# Altium schematic symbol library Schlib.SchLib: 2 symbols
Pins are listed as number, name and electrical type; pins without a type are passive.

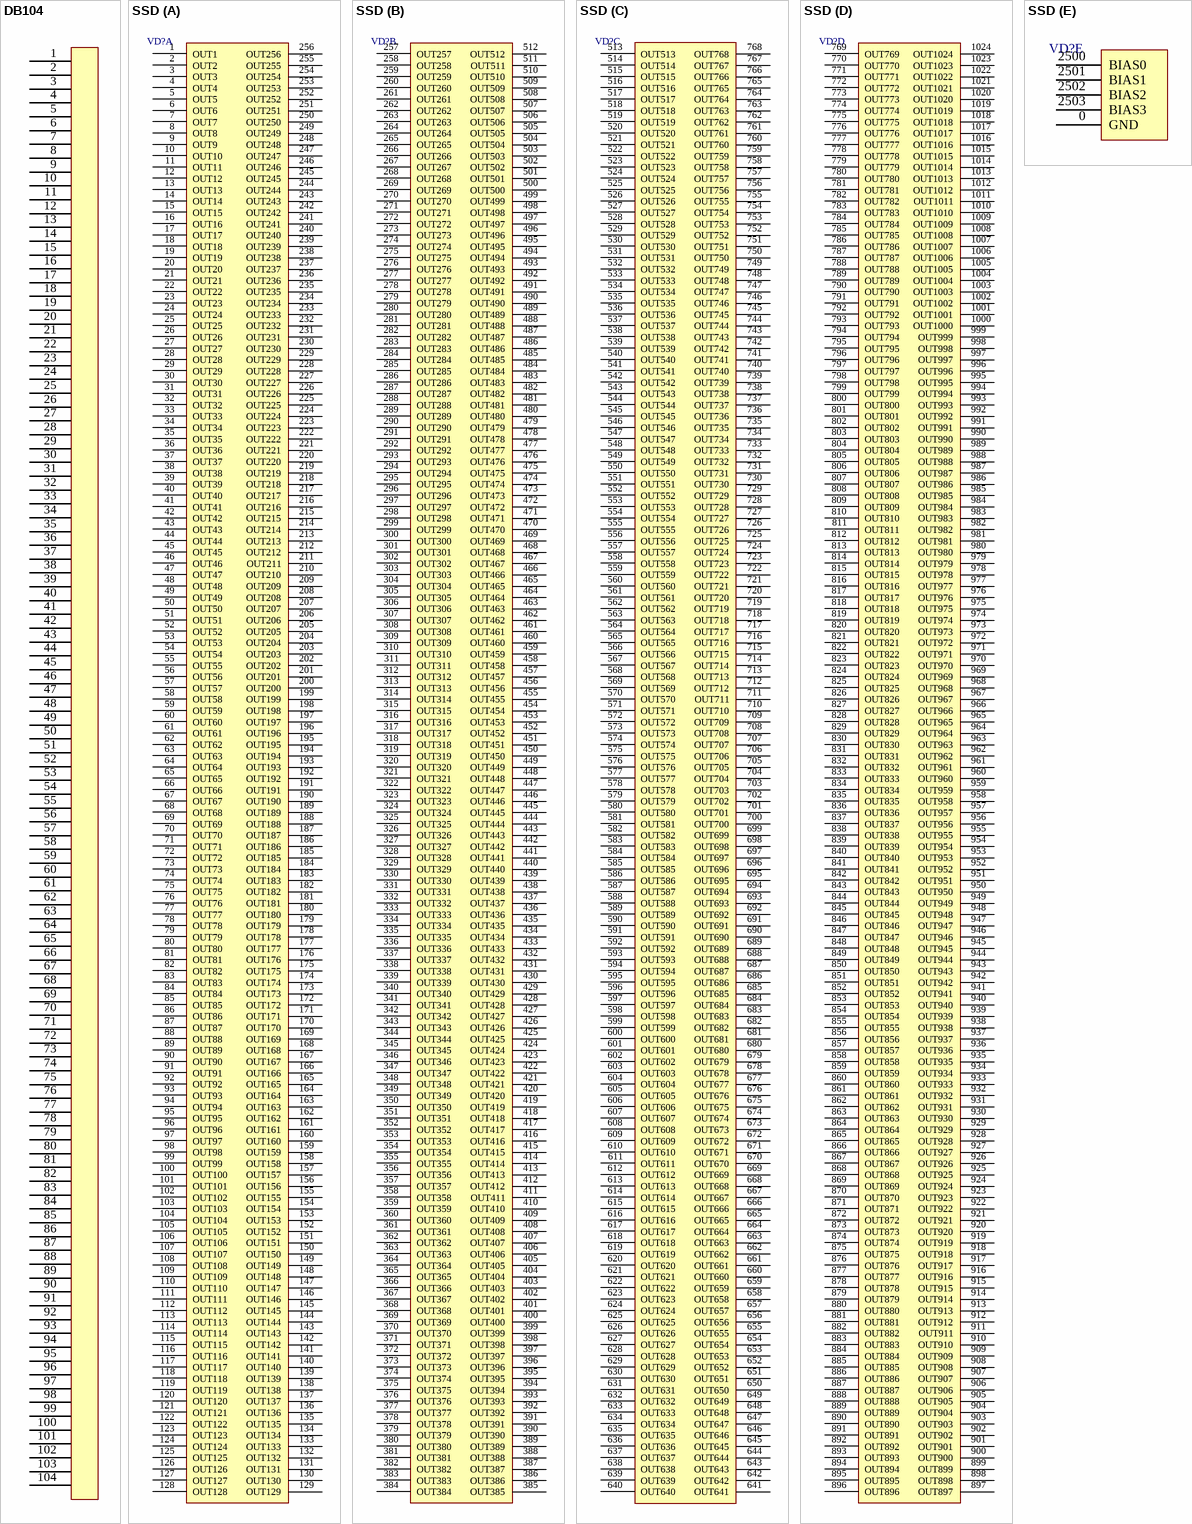
[diagram p0: symbols DB104 to SSD]

## DB104
designator ?
footprint DB104
pins: 1, 2, 3, 4, 5, 6, 7, 8, 9, 10, 11, 12, 13, 14, 15, 16, 17, 18, 19, 20, 21, 22, 23, 24, 25, 26, 27, 28, 29, 30, 31, 32, 33, 34, 35, 36, 37, 38, 39, 40, 41, 42, 43, 44, 45, 46, 47, 48, 49, 50, 51, 52, 53, 54, 55, 56, 57, 58, 59, 60, 61, 62, 63, 64, 65, 66, 67, 68, 69, 70, 71, 72, 73, 74, 75, 76, 77, 78, 79, 80, 81, 82, 83, 84, 85, 86, 87, 88, 89, 90, 91, 92, 93, 94, 95, 96, 97, 98, 99, 100, 101, 102, 103, 104

## SSD
designator VD?
footprint QFN20P11000X11000X80-2048N (QFN, 2048-Leads, Body 110,00x110,00mm, Pitch 0,20mm, IPC Medium Density)
part A pins: 1 OUT1, 2 OUT2, 3 OUT3, 4 OUT4, 5 OUT5, 6 OUT6, 7 OUT7, 8 OUT8, 9 OUT9, 10 OUT10, 11 OUT11, 12 OUT12, 13 OUT13, 14 OUT14, 15 OUT15, 16 OUT16, 17 OUT17, 18 OUT18, 19 OUT19, 20 OUT20, 21 OUT21, 22 OUT22, 23 OUT23, 24 OUT24, 25 OUT25, 26 OUT26, 27 OUT27, 28 OUT28, 29 OUT29, 30 OUT30, 31 OUT31, 32 OUT32, 33 OUT33, 34 OUT34, 35 OUT35, 36 OUT36, 37 OUT37, 38 OUT38, 39 OUT39, 40 OUT40, 41 OUT41, 42 OUT42, 43 OUT43, 44 OUT44, 45 OUT45, 46 OUT46, 47 OUT47, 48 OUT48, 49 OUT49, 50 OUT50, 51 OUT51, 52 OUT52, 53 OUT53, 54 OUT54, 55 OUT55, 56 OUT56, 57 OUT57, 58 OUT58, 59 OUT59, 60 OUT60, 61 OUT61, 62 OUT62, 63 OUT63, 64 OUT64, 65 OUT65, 66 OUT66, 67 OUT67, 68 OUT68, 69 OUT69, 70 OUT70, 71 OUT71, 72 OUT72, 73 OUT73, 74 OUT74, 75 OUT75, 76 OUT76, 77 OUT77, 78 OUT78, 79 OUT79, 80 OUT80, 81 OUT81, 82 OUT82, 83 OUT83, 84 OUT84, 85 OUT85, 86 OUT86, 87 OUT87, 88 OUT88, 89 OUT89, 90 OUT90, 91 OUT91, 92 OUT92, 93 OUT93, 94 OUT94, 95 OUT95, 96 OUT96, 97 OUT97, 98 OUT98, 99 OUT99, 100 OUT100, 101 OUT101, 102 OUT102, 103 OUT103, 104 OUT104, 105 OUT105, 106 OUT106, 107 OUT107, 108 OUT108, 109 OUT109, 110 OUT110, 111 OUT111, 112 OUT112, 113 OUT113, 114 OUT114, 115 OUT115, 116 OUT116, 117 OUT117, 118 OUT118, 119 OUT119, 120 OUT120, 121 OUT121, 122 OUT122, 123 OUT123, 124 OUT124, 125 OUT125, 126 OUT126, 127 OUT127, 128 OUT128, 129 OUT129, 130 OUT130, 131 OUT131, 132 OUT132, 133 OUT133, 134 OUT134, 135 OUT135, 136 OUT136, 137 OUT137, 138 OUT138, 139 OUT139, 140 OUT140, 141 OUT141, 142 OUT142, 143 OUT143, 144 OUT144, 145 OUT145, 146 OUT146, 147 OUT147, 148 OUT148, 149 OUT149, 150 OUT150, 151 OUT151, 152 OUT152, 153 OUT153, 154 OUT154, 155 OUT155, 156 OUT156, 157 OUT157, 158 OUT158, 159 OUT159, 160 OUT160, 161 OUT161, 162 OUT162, 163 OUT163, 164 OUT164, 165 OUT165, 166 OUT166, 167 OUT167, 168 OUT168, 169 OUT169, 170 OUT170, 171 OUT171, 172 OUT172, 173 OUT173, 174 OUT174, 175 OUT175, 176 OUT176, 177 OUT177, 178 OUT178, 179 OUT179, 180 OUT180, 181 OUT181, 182 OUT182, 183 OUT183, 184 OUT184, 185 OUT185, 186 OUT186, 187 OUT187, 188 OUT188, 189 OUT189, 190 OUT190, 191 OUT191, 192 OUT192, 193 OUT193, 194 OUT194, 195 OUT195, 196 OUT196, 197 OUT197, 198 OUT198, 199 OUT199, 200 OUT200, 201 OUT201, 202 OUT202, 203 OUT203, 204 OUT204, 205 OUT205, 206 OUT206, 207 OUT207, 208 OUT208, 209 OUT209, 210 OUT210, 211 OUT211, 212 OUT212, 213 OUT213, 214 OUT214, 215 OUT215, 216 OUT216, 217 OUT217, 218 OUT218, 219 OUT219, 220 OUT220, 221 OUT221, 222 OUT222, 223 OUT223, 224 OUT224, 225 OUT225, 226 OUT226, 227 OUT227, 228 OUT228, 229 OUT229, 230 OUT230, 231 OUT231, 232 OUT232, 233 OUT233, 234 OUT234, 235 OUT235, 236 OUT236, 237 OUT237, 238 OUT238, 239 OUT239, 240 OUT240, 241 OUT241, 242 OUT242, 243 OUT243, 244 OUT244, 245 OUT245, 246 OUT246, 247 OUT247, 248 OUT248, 249 OUT249, 250 OUT250, 251 OUT251, 252 OUT252, 253 OUT253, 254 OUT254, 255 OUT255, 256 OUT256
part B pins: 257 OUT257, 258 OUT258, 259 OUT259, 260 OUT260, 261 OUT261, 262 OUT262, 263 OUT263, 264 OUT264, 265 OUT265, 266 OUT266, 267 OUT267, 268 OUT268, 269 OUT269, 270 OUT270, 271 OUT271, 272 OUT272, 273 OUT273, 274 OUT274, 275 OUT275, 276 OUT276, 277 OUT277, 278 OUT278, 279 OUT279, 280 OUT280, 281 OUT281, 282 OUT282, 283 OUT283, 284 OUT284, 285 OUT285, 286 OUT286, 287 OUT287, 288 OUT288, 289 OUT289, 290 OUT290, 291 OUT291, 292 OUT292, 293 OUT293, 294 OUT294, 295 OUT295, 296 OUT296, 297 OUT297, 298 OUT298, 299 OUT299, 300 OUT300, 301 OUT301, 302 OUT302, 303 OUT303, 304 OUT304, 305 OUT305, 306 OUT306, 307 OUT307, 308 OUT308, 309 OUT309, 310 OUT310, 311 OUT311, 312 OUT312, 313 OUT313, 314 OUT314, 315 OUT315, 316 OUT316, 317 OUT317, 318 OUT318, 319 OUT319, 320 OUT320, 321 OUT321, 322 OUT322, 323 OUT323, 324 OUT324, 325 OUT325, 326 OUT326, 327 OUT327, 328 OUT328, 329 OUT329, 330 OUT330, 331 OUT331, 332 OUT332, 333 OUT333, 334 OUT334, 335 OUT335, 336 OUT336, 337 OUT337, 338 OUT338, 339 OUT339, 340 OUT340, 341 OUT341, 342 OUT342, 343 OUT343, 344 OUT344, 345 OUT345, 346 OUT346, 347 OUT347, 348 OUT348, 349 OUT349, 350 OUT350, 351 OUT351, 352 OUT352, 353 OUT353, 354 OUT354, 355 OUT355, 356 OUT356, 357 OUT357, 358 OUT358, 359 OUT359, 360 OUT360, 361 OUT361, 362 OUT362, 363 OUT363, 364 OUT364, 365 OUT365, 366 OUT366, 367 OUT367, 368 OUT368, 369 OUT369, 370 OUT370, 371 OUT371, 372 OUT372, 373 OUT373, 374 OUT374, 375 OUT375, 376 OUT376, 377 OUT377, 378 OUT378, 379 OUT379, 380 OUT380, 381 OUT381, 382 OUT382, 383 OUT383, 384 OUT384, 385 OUT385, 386 OUT386, 387 OUT387, 388 OUT388, 389 OUT389, 390 OUT390, 391 OUT391, 392 OUT392, 393 OUT393, 394 OUT394, 395 OUT395, 396 OUT396, 397 OUT397, 398 OUT398, 399 OUT399, 400 OUT400, 401 OUT401, 402 OUT402, 403 OUT403, 404 OUT404, 405 OUT405, 406 OUT406, 407 OUT407, 408 OUT408, 409 OUT409, 410 OUT410, 411 OUT411, 412 OUT412, 413 OUT413, 414 OUT414, 415 OUT415, 416 OUT416, 417 OUT417, 418 OUT418, 419 OUT419, 420 OUT420, 421 OUT421, 422 OUT422, 423 OUT423, 424 OUT424, 425 OUT425, 426 OUT426, 427 OUT427, 428 OUT428, 429 OUT429, 430 OUT430, 431 OUT431, 432 OUT432, 433 OUT433, 434 OUT434, 435 OUT435, 436 OUT436, 437 OUT437, 438 OUT438, 439 OUT439, 440 OUT440, 441 OUT441, 442 OUT442, 443 OUT443, 444 OUT444, 445 OUT445, 446 OUT446, 447 OUT447, 448 OUT448, 449 OUT449, 450 OUT450, 451 OUT451, 452 OUT452, 453 OUT453, 454 OUT454, 455 OUT455, 456 OUT456, 457 OUT457, 458 OUT458, 459 OUT459, 460 OUT460, 461 OUT461, 462 OUT462, 463 OUT463, 464 OUT464, 465 OUT465, 466 OUT466, 467 OUT467, 468 OUT468, 469 OUT469, 470 OUT470, 471 OUT471, 472 OUT472, 473 OUT473, 474 OUT474, 475 OUT475, 476 OUT476, 477 OUT477, 478 OUT478, 479 OUT479, 480 OUT480, 481 OUT481, 482 OUT482, 483 OUT483, 484 OUT484, 485 OUT485, 486 OUT486, 487 OUT487, 488 OUT488, 489 OUT489, 490 OUT490, 491 OUT491, 492 OUT492, 493 OUT493, 494 OUT494, 495 OUT495, 496 OUT496, 497 OUT497, 498 OUT498, 499 OUT499, 500 OUT500, 501 OUT501, 502 OUT502, 503 OUT503, 504 OUT504, 505 OUT505, 506 OUT506, 507 OUT507, 508 OUT508, 509 OUT509, 510 OUT510, 511 OUT511, 512 OUT512
part C pins: 513 OUT513, 514 OUT514, 515 OUT515, 516 OUT516, 517 OUT517, 518 OUT518, 519 OUT519, 520 OUT520, 521 OUT521, 522 OUT522, 523 OUT523, 524 OUT524, 525 OUT525, 526 OUT526, 527 OUT527, 528 OUT528, 529 OUT529, 530 OUT530, 531 OUT531, 532 OUT532, 533 OUT533, 534 OUT534, 535 OUT535, 536 OUT536, 537 OUT537, 538 OUT538, 539 OUT539, 540 OUT540, 541 OUT541, 542 OUT542, 543 OUT543, 544 OUT544, 545 OUT545, 546 OUT546, 547 OUT547, 548 OUT548, 549 OUT549, 550 OUT550, 551 OUT551, 552 OUT552, 553 OUT553, 554 OUT554, 555 OUT555, 556 OUT556, 557 OUT557, 558 OUT558, 559 OUT559, 560 OUT560, 561 OUT561, 562 OUT562, 563 OUT563, 564 OUT564, 565 OUT565, 566 OUT566, 567 OUT567, 568 OUT568, 569 OUT569, 570 OUT570, 571 OUT571, 572 OUT572, 573 OUT573, 574 OUT574, 575 OUT575, 576 OUT576, 577 OUT577, 578 OUT578, 579 OUT579, 580 OUT580, 581 OUT581, 582 OUT582, 583 OUT583, 584 OUT584, 585 OUT585, 586 OUT586, 587 OUT587, 588 OUT588, 589 OUT589, 590 OUT590, 591 OUT591, 592 OUT592, 593 OUT593, 594 OUT594, 595 OUT595, 596 OUT596, 597 OUT597, 598 OUT598, 599 OUT599, 600 OUT600, 601 OUT601, 602 OUT602, 603 OUT603, 604 OUT604, 605 OUT605, 606 OUT606, 607 OUT607, 608 OUT608, 609 OUT609, 610 OUT610, 611 OUT611, 612 OUT612, 613 OUT613, 614 OUT614, 615 OUT615, 616 OUT616, 617 OUT617, 618 OUT618, 619 OUT619, 620 OUT620, 621 OUT621, 622 OUT622, 623 OUT623, 624 OUT624, 625 OUT625, 626 OUT626, 627 OUT627, 628 OUT628, 629 OUT629, 630 OUT630, 631 OUT631, 632 OUT632, 633 OUT633, 634 OUT634, 635 OUT635, 636 OUT636, 637 OUT637, 638 OUT638, 639 OUT639, 640 OUT640, 641 OUT641, 642 OUT642, 643 OUT643, 644 OUT644, 645 OUT645, 646 OUT646, 647 OUT647, 648 OUT648, 649 OUT649, 650 OUT650, 651 OUT651, 652 OUT652, 653 OUT653, 654 OUT654, 655 OUT655, 656 OUT656, 657 OUT657, 658 OUT658, 659 OUT659, 660 OUT660, 661 OUT661, 662 OUT662, 663 OUT663, 664 OUT664, 665 OUT665, 666 OUT666, 667 OUT667, 668 OUT668, 669 OUT669, 670 OUT670, 671 OUT671, 672 OUT672, 673 OUT673, 674 OUT674, 675 OUT675, 676 OUT676, 677 OUT677, 678 OUT678, 679 OUT679, 680 OUT680, 681 OUT681, 682 OUT682, 683 OUT683, 684 OUT684, 685 OUT685, 686 OUT686, 687 OUT687, 688 OUT688, 689 OUT689, 690 OUT690, 691 OUT691, 692 OUT692, 693 OUT693, 694 OUT694, 695 OUT695, 696 OUT696, 697 OUT697, 698 OUT698, 699 OUT699, 700 OUT700, 701 OUT701, 702 OUT702, 703 OUT703, 704 OUT704, 705 OUT705, 706 OUT706, 707 OUT707, 708 OUT708, 709 OUT709, 710 OUT710, 711 OUT711, 712 OUT712, 713 OUT713, 714 OUT714, 715 OUT715, 716 OUT716, 717 OUT717, 718 OUT718, 719 OUT719, 720 OUT720, 721 OUT721, 722 OUT722, 723 OUT723, 724 OUT724, 725 OUT725, 726 OUT726, 727 OUT727, 728 OUT728, 729 OUT729, 730 OUT730, 731 OUT731, 732 OUT732, 733 OUT733, 734 OUT734, 735 OUT735, 736 OUT736, 737 OUT737, 738 OUT738, 739 OUT739, 740 OUT740, 741 OUT741, 742 OUT742, 743 OUT743, 744 OUT744, 745 OUT745, 746 OUT746, 747 OUT747, 748 OUT748, 749 OUT749, 750 OUT750, 751 OUT751, 752 OUT752, 753 OUT753, 754 OUT754, 755 OUT755, 756 OUT756, 757 OUT757, 758 OUT758, 759 OUT759, 760 OUT760, 761 OUT761, 762 OUT762, 763 OUT763, 764 OUT764, 765 OUT765, 766 OUT766, 767 OUT767, 768 OUT768
part D pins: 769 OUT769, 770 OUT770, 771 OUT771, 772 OUT772, 773 OUT773, 774 OUT774, 775 OUT775, 776 OUT776, 777 OUT777, 778 OUT778, 779 OUT779, 780 OUT780, 781 OUT781, 782 OUT782, 783 OUT783, 784 OUT784, 785 OUT785, 786 OUT786, 787 OUT787, 788 OUT788, 789 OUT789, 790 OUT790, 791 OUT791, 792 OUT792, 793 OUT793, 794 OUT794, 795 OUT795, 796 OUT796, 797 OUT797, 798 OUT798, 799 OUT799, 800 OUT800, 801 OUT801, 802 OUT802, 803 OUT803, 804 OUT804, 805 OUT805, 806 OUT806, 807 OUT807, 808 OUT808, 809 OUT809, 810 OUT810, 811 OUT811, 812 OUT812, 813 OUT813, 814 OUT814, 815 OUT815, 816 OUT816, 817 OUT817, 818 OUT818, 819 OUT819, 820 OUT820, 821 OUT821, 822 OUT822, 823 OUT823, 824 OUT824, 825 OUT825, 826 OUT826, 827 OUT827, 828 OUT828, 829 OUT829, 830 OUT830, 831 OUT831, 832 OUT832, 833 OUT833, 834 OUT834, 835 OUT835, 836 OUT836, 837 OUT837, 838 OUT838, 839 OUT839, 840 OUT840, 841 OUT841, 842 OUT842, 843 OUT843, 844 OUT844, 845 OUT845, 846 OUT846, 847 OUT847, 848 OUT848, 849 OUT849, 850 OUT850, 851 OUT851, 852 OUT852, 853 OUT853, 854 OUT854, 855 OUT855, 856 OUT856, 857 OUT857, 858 OUT858, 859 OUT859, 860 OUT860, 861 OUT861, 862 OUT862, 863 OUT863, 864 OUT864, 865 OUT865, 866 OUT866, 867 OUT867, 868 OUT868, 869 OUT869, 870 OUT870, 871 OUT871, 872 OUT872, 873 OUT873, 874 OUT874, 875 OUT875, 876 OUT876, 877 OUT877, 878 OUT878, 879 OUT879, 880 OUT880, 881 OUT881, 882 OUT882, 883 OUT883, 884 OUT884, 885 OUT885, 886 OUT886, 887 OUT887, 888 OUT888, 889 OUT889, 890 OUT890, 891 OUT891, 892 OUT892, 893 OUT893, 894 OUT894, 895 OUT895, 896 OUT896, 897 OUT897, 898 OUT898, 899 OUT899, 900 OUT900, 901 OUT901, 902 OUT902, 903 OUT903, 904 OUT904, 905 OUT905, 906 OUT906, 907 OUT907, 908 OUT908, 909 OUT909, 910 OUT910, 911 OUT911, 912 OUT912, 913 OUT913, 914 OUT914, 915 OUT915, 916 OUT916, 917 OUT917, 918 OUT918, 919 OUT919, 920 OUT920, 921 OUT921, 922 OUT922, 923 OUT923, 924 OUT924, 925 OUT925, 926 OUT926, 927 OUT927, 928 OUT928, 929 OUT929, 930 OUT930, 931 OUT931, 932 OUT932, 933 OUT933, 934 OUT934, 935 OUT935, 936 OUT936, 937 OUT937, 938 OUT938, 939 OUT939, 940 OUT940, 941 OUT941, 942 OUT942, 943 OUT943, 944 OUT944, 945 OUT945, 946 OUT946, 947 OUT947, 948 OUT948, 949 OUT949, 950 OUT950, 951 OUT951, 952 OUT952, 953 OUT953, 954 OUT954, 955 OUT955, 956 OUT956, 957 OUT957, 958 OUT958, 959 OUT959, 960 OUT960, 961 OUT961, 962 OUT962, 963 OUT963, 964 OUT964, 965 OUT965, 966 OUT966, 967 OUT967, 968 OUT968, 969 OUT969, 970 OUT970, 971 OUT971, 972 OUT972, 973 OUT973, 974 OUT974, 975 OUT975, 976 OUT976, 977 OUT977, 978 OUT978, 979 OUT979, 980 OUT980, 981 OUT981, 982 OUT982, 983 OUT983, 984 OUT984, 985 OUT985, 986 OUT986, 987 OUT987, 988 OUT988, 989 OUT989, 990 OUT990, 991 OUT991, 992 OUT992, 993 OUT993, 994 OUT994, 995 OUT995, 996 OUT996, 997 OUT997, 998 OUT998, 999 OUT999, 1000 OUT1000, 1001 OUT1001, 1002 OUT1002, 1003 OUT1003, 1004 OUT1004, 1005 OUT1005, 1006 OUT1006, 1007 OUT1007, 1008 OUT1008, 1009 OUT1009, 1010 OUT1010, 1011 OUT1011, 1012 OUT1012, 1013 OUT1013, 1014 OUT1014, 1015 OUT1015, 1016 OUT1016, 1017 OUT1017, 1018 OUT1018, 1019 OUT1019, 1020 OUT1020, 1021 OUT1021, 1022 OUT1022, 1023 OUT1023, 1024 OUT1024
part E pins: 0 GND, 2500 BIAS0, 2501 BIAS1, 2502 BIAS2, 2503 BIAS3